# Altium integrated library TI Data Converters Analog to Digital Converter.IntLib: 2198 symbols (part 76 of 164)
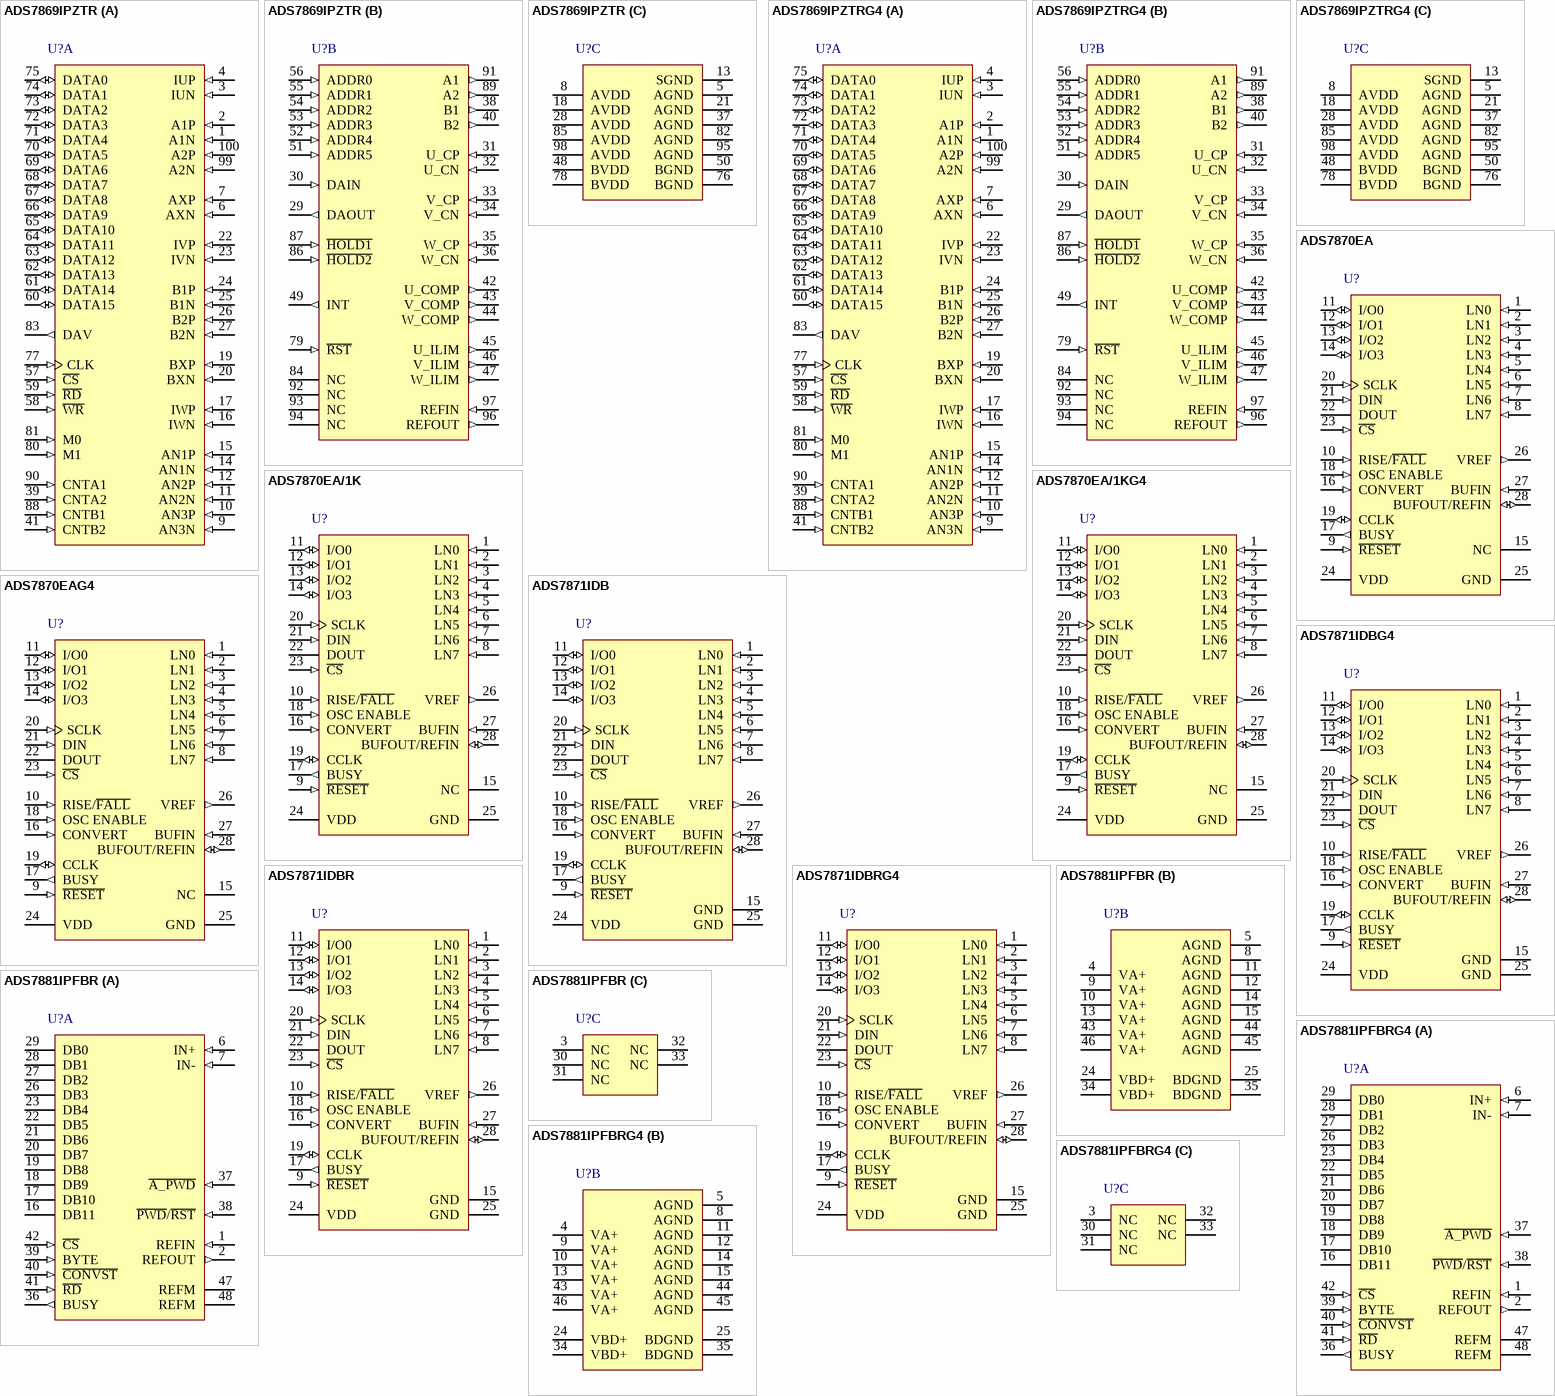
[diagram p201: symbols ADS7869IPZTR to ADS7881IPFBRG4]

## ADS7869IPZTR
designator U?
12-Channel 7 Simultaneous Sampling, Analog Motor Control Front End, 1 MSPS, 12-Bit ADC, -40 to 85 degC, 100-pin QFP (PZT100), Green (RoHS & no Sb/Br); Manufacturer: Texas Instruments; PartNumber: ADS7869IPZTR; # Input Channels: 12; Analog Voltage AV/DD(Max)(V): 5.5; Analog Voltage AV/DD(Min)(V): 4.5; Architecture: SAR; Digital Supply(Min)(V): 2.7; INL(Max)(+/-LSB): 2.5; Interface: Parallel CMOS, Serial SPI; Sample Rate (max)(SPS): 1M; SINAD(dB): 70; SNR(dB): 71; SubFamily: Precision ADC (<=10MSPS); DatasheetVersion: SBAS253E; PackageVersion: 4073179/B, 11/1996; PackageReference: PZT100; PackageDescription: 100-Pin Plastic Quad Flatpack, Body 14 x 14 mm, Pitch 0.5 mm; Supplier 1: Digi-Key; Supplier Part Number 1: ADS7842EB/1KG4-ND; Digital Supply(Max)(V): 5.5; Eco-Plan: Green (RoHS & no Sb/Br); Resolution(Bits): 12; Mounting Technology: Surface Mount; Code_JEDEC: MS-026; ComponentLink1Description: Manufacturer URL; ComponentLink1URL: http://www.ti.com/; ComponentLink2Description: Datasheet; ComponentLink2URL: http://www.ti.com/general/docs/lit/getliterature.tsp?genericPartNumber=ADS7869&fileType=pdf; ComponentLink3Description: Package Specification; ComponentLink3URL: http://www.ti.com/litv/pdf/mtqf012b
footprint TI-PZT100_N (QFP, 100-Leads, Body 14x14mm, Pitch 0.5mm, IPC Medium Density)
footprint TI-PZT100_L (QFP, 100-Leads, Body 14x14mm, Pitch 0.5mm, IPC High Density)
footprint TI-PZT100_M (QFP, 100-Leads, Body 14x14mm, Pitch 0.5mm, IPC Low Density)
part A pins: 1 A1N (in) "Position Sensor 1, Analog Input of SIN, Negative Input", 2 A1P (in) "Position Sensor 1, Analog Input of SIN, Positive Input", 3 IUN (in) "Phase U Current, Negative Input", 4 IUP (in) "Phase U Current, Positive Input", 6 AXN (in) "Position Sensor X, Asynchronous Analog Input of SIN, Negative Input", 7 AXP (in) "Position Sensor X, Asynchronous Analog Input of SIN, Positive Input", 9 AN3N (in) "Auxiliary Analog Input Channel (3), Negative Input", 10 AN3P (in) "Auxiliary Analog Input Channel (3), Positive Input", 11 AN2N (in) "Auxiliary Analog Input Channel (2), Negative Input", 12 AN2P (in) "Auxiliary Analog Input Channel (2), Positive Input", 14 AN1N (in) "Auxiliary Analog Input Channel (1), Negative Input", 15 AN1P (in) "Auxiliary Analog Input Channel (1), Positive Input", 16 IWN (in) "Phase W Current, Negative Input", 17 IWP (in) "Phase W Current, Positive Input", 19 BXP (in) "Position Sensor X, Asynchronous Analog Input of COS, Positive Input", 20 BXN (in) "Position Sensor X, Asynchronous Analog Input of COS, Negative Input", 22 IVP (in) "Phase V Current, Positive Input", 23 IVN (in) "Phase V Current, Negative Input", 24 B1P (in) "Position Sensor 1, Analog Input of COS, Positive Input", 25 B1N (in) "Position Sensor 1, Analog Input of COS, Negative Input", 26 B2P (in) "Position Sensor 2, Analog Input of COS, Positive Input", 27 B2N (in) "Position Sensor 2, Analog Input of COS, Negative Input", 39 CNTA2 (in) "Input Signal SIN to 16-bit Up/Down Counter 2", 41 CNTB2 (in) "Input Signal COS to 16-bit Up/Down Counter 2", 57 ~{CS} (in) "Active Low Chip-Select Signal", 58 ~{WR} (in) "Active Low Write Signal", 59 ~{RD} (in) "Active Low Read Signal", 60 DATA15 (io) "Bidirectional 3-state Data Bus", 61 DATA14 (io) "Bidirectional 3-state Data Bus", 62 DATA13 (io) "Bidirectional 3-state Data Bus", 63 DATA12 (io) "Bidirectional 3-state Data Bus", 64 DATA11 (io) "Bidirectional 3-state Data Bus", 65 DATA10 (io) "Bidirectional 3-state Data Bus", 66 DATA9 (io) "Bidirectional 3-state Data Bus", 67 DATA8 (io) "Bidirectional 3-state Data Bus", 68 DATA7 (io) "Bidirectional 3-state Data Bus", 69 DATA6 (io) "Bidirectional 3-state Data Bus", 70 DATA5 (io) "Bidirectional 3-state Data Bus", 71 DATA4 (io) "Bidirectional 3-state Data Bus", 72 DATA3 (io) "Bidirectional 3-state Data Bus", 73 DATA2 (io) "Bidirectional 3-state Data Bus", 74 DATA1 (io) "Bidirectional 3-state Data Bus", 75 DATA0 (io) "Bidirectional 3-state Data Bus", 77 CLK (in) "System Clock", 80 M1 (in) "Mode Select Pins", 81 M0 (in) "Mode Select Pins", 83 DAV (out) "Data Available Signal", 88 CNTB1 (in) "Input Signal COS to 16-bit Up/Down Counter 1", 90 CNTA1 (in) "Input Signal SIN to 16-bit Up/Down Counter 1", 99 A2N (in) "Position Sensor 2, Analog Input of SIN, Negative Input", 100 A2P (in) "Position Sensor 2, Analog Input of SIN, Positive Input"
part B pins: 29 DAOUT (out) "8-Bit DAC Output for Over-Current Limit Value", 30 DAIN (in) "Over-Current Limit Value as Input for Window Comparators", 31 U_CP (in) "Phase U Current Signal Input for Sign and Window Comparator, Positive Input", 32 U_CN (in) "Phase U Current Signal Input for Sign and Window Comparator, Negative Input", 33 V_CP (in) "Phase V Current Signal Input for Sign and Window Comparator, Positive Input", 34 V_CN (in) "Phase V Current Signal Input for Sign and Window Comparator, Negative Input", 35 W_CP (in) "Phase W Current Signal Input for Sign and Window Comparator, Positive Input", 36 W_CN (in) "Phase W Current Signal Input for Sign and Window Comparator, Negative Input", 38 B1 (out) "Sign of COS Signal, Position Sensor 1", 40 B2 (out) "Sign of COS Signal, Position Sensor 2", 42 U_COMP (out) "Sign of Phase U Current", 43 V_COMP (out) "Sign of Phase V Current", 44 W_COMP (out) "Sign of Phase W Current", 45 U_ILIM (out) "Over-current Output of Phase U, Active Low Output", 46 V_ILIM (out) "Over-current Output of Phase V, Active Low Output", 47 W_ILIM (out) "Over-current Output of Phase W, Active Low Output", 49 INT (out) "Active High Interrupt Output", 51 ADDR5 (in) "Address Decode Input", 52 ADDR4 (in) "Address Decode Input", 53 ADDR3 (in) "Address Decode Input", 54 ADDR2 (in) "Address Decode Input", 55 ADDR1 (in) "Address Decode Input", 56 ADDR0 (in) "Address Decode Input", 79 ~{RST} (in) "Active Low Reset Input", 84 NC "No connection (should be left open)", 86 ~{HOLD2} (in) "Active Low Asynchronous Hold Signal for Sample-and-Hold Amplifiers", 87 ~{HOLD1} (in) "Active Low Convert Start and Synchronous Hold Signal for Sample-and-Hold Amplifiers", 89 A2 (out) "Sign of SIN Signal, Position Sensor 2", 91 A1 (out) "Sign of SIN Signal, Position Sensor 1", 92 NC "No connection (should be left open)", 93 NC "No connection (should be left open)", 94 NC "No connection (should be left open)", 96 REFOUT (out) "Reference Voltage Output Pin", 97 REFIN (in) "Reference Voltage Input Pin"
part C pins: 5 AGND (power) "Analog Ground", 8 AVDD (power) "Analog Power Supply", 13 SGND (power) "Signal Ground", 18 AVDD (power) "Analog Power Supply", 21 AGND (power) "Analog Ground", 28 AVDD (power) "Analog Power Supply", 37 AGND (power) "Analog Ground", 48 BVDD (power) "Interface Power Supply", 50 BGND (power) "Interface Ground", 76 BGND (power) "Interface Ground", 78 BVDD (power) "Interface Power Supply", 82 AGND (power) "Analog Ground", 85 AVDD (power) "Analog Power Supply", 95 AGND (power) "Analog Ground", 98 AVDD (power) "Analog Power Supply"

## ADS7869IPZTRG4
designator U?
12-Channel 7 Simultaneous Sampling, Analog Motor Control Front End, 1 MSPS, 12-Bit ADC, -40 to 85 degC, 100-pin QFP (PZT100), Green (RoHS & no Sb/Br); Manufacturer: Texas Instruments; PartNumber: ADS7869IPZTRG4; # Input Channels: 12; Analog Voltage AV/DD(Max)(V): 5.5; Analog Voltage AV/DD(Min)(V): 4.5; Architecture: SAR; Digital Supply(Min)(V): 2.7; INL(Max)(+/-LSB): 2.5; Interface: Parallel CMOS, Serial SPI; Sample Rate (max)(SPS): 1M; SINAD(dB): 70; SNR(dB): 71; SubFamily: Precision ADC (<=10MSPS); DatasheetVersion: SBAS253E; PackageVersion: 4073179/B, 11/1996; PackageReference: PZT100; PackageDescription: 100-Pin Plastic Quad Flatpack, Body 14 x 14 mm, Pitch 0.5 mm; Supplier 1: Digi-Key; Supplier Part Number 1: ADS7842EBG4-ND; Digital Supply(Max)(V): 5.5; Eco-Plan: Green (RoHS & no Sb/Br); Resolution(Bits): 12; Mounting Technology: Surface Mount; Code_JEDEC: MS-026; ComponentLink1Description: Manufacturer URL; ComponentLink1URL: http://www.ti.com/; ComponentLink2Description: Datasheet; ComponentLink2URL: http://www.ti.com/general/docs/lit/getliterature.tsp?genericPartNumber=ADS7869&fileType=pdf; ComponentLink3Description: Package Specification; ComponentLink3URL: http://www.ti.com/litv/pdf/mtqf012b
footprint TI-PZT100_N (QFP, 100-Leads, Body 14x14mm, Pitch 0.5mm, IPC Medium Density)
footprint TI-PZT100_L (QFP, 100-Leads, Body 14x14mm, Pitch 0.5mm, IPC High Density)
footprint TI-PZT100_M (QFP, 100-Leads, Body 14x14mm, Pitch 0.5mm, IPC Low Density)
part A pins: 1 A1N (in) "Position Sensor 1, Analog Input of SIN, Negative Input", 2 A1P (in) "Position Sensor 1, Analog Input of SIN, Positive Input", 3 IUN (in) "Phase U Current, Negative Input", 4 IUP (in) "Phase U Current, Positive Input", 6 AXN (in) "Position Sensor X, Asynchronous Analog Input of SIN, Negative Input", 7 AXP (in) "Position Sensor X, Asynchronous Analog Input of SIN, Positive Input", 9 AN3N (in) "Auxiliary Analog Input Channel (3), Negative Input", 10 AN3P (in) "Auxiliary Analog Input Channel (3), Positive Input", 11 AN2N (in) "Auxiliary Analog Input Channel (2), Negative Input", 12 AN2P (in) "Auxiliary Analog Input Channel (2), Positive Input", 14 AN1N (in) "Auxiliary Analog Input Channel (1), Negative Input", 15 AN1P (in) "Auxiliary Analog Input Channel (1), Positive Input", 16 IWN (in) "Phase W Current, Negative Input", 17 IWP (in) "Phase W Current, Positive Input", 19 BXP (in) "Position Sensor X, Asynchronous Analog Input of COS, Positive Input", 20 BXN (in) "Position Sensor X, Asynchronous Analog Input of COS, Negative Input", 22 IVP (in) "Phase V Current, Positive Input", 23 IVN (in) "Phase V Current, Negative Input", 24 B1P (in) "Position Sensor 1, Analog Input of COS, Positive Input", 25 B1N (in) "Position Sensor 1, Analog Input of COS, Negative Input", 26 B2P (in) "Position Sensor 2, Analog Input of COS, Positive Input", 27 B2N (in) "Position Sensor 2, Analog Input of COS, Negative Input", 39 CNTA2 (in) "Input Signal SIN to 16-bit Up/Down Counter 2", 41 CNTB2 (in) "Input Signal COS to 16-bit Up/Down Counter 2", 57 ~{CS} (in) "Active Low Chip-Select Signal", 58 ~{WR} (in) "Active Low Write Signal", 59 ~{RD} (in) "Active Low Read Signal", 60 DATA15 (io) "Bidirectional 3-state Data Bus", 61 DATA14 (io) "Bidirectional 3-state Data Bus", 62 DATA13 (io) "Bidirectional 3-state Data Bus", 63 DATA12 (io) "Bidirectional 3-state Data Bus", 64 DATA11 (io) "Bidirectional 3-state Data Bus", 65 DATA10 (io) "Bidirectional 3-state Data Bus", 66 DATA9 (io) "Bidirectional 3-state Data Bus", 67 DATA8 (io) "Bidirectional 3-state Data Bus", 68 DATA7 (io) "Bidirectional 3-state Data Bus", 69 DATA6 (io) "Bidirectional 3-state Data Bus", 70 DATA5 (io) "Bidirectional 3-state Data Bus", 71 DATA4 (io) "Bidirectional 3-state Data Bus", 72 DATA3 (io) "Bidirectional 3-state Data Bus", 73 DATA2 (io) "Bidirectional 3-state Data Bus", 74 DATA1 (io) "Bidirectional 3-state Data Bus", 75 DATA0 (io) "Bidirectional 3-state Data Bus", 77 CLK (in) "System Clock", 80 M1 (in) "Mode Select Pins", 81 M0 (in) "Mode Select Pins", 83 DAV (out) "Data Available Signal", 88 CNTB1 (in) "Input Signal COS to 16-bit Up/Down Counter 1", 90 CNTA1 (in) "Input Signal SIN to 16-bit Up/Down Counter 1", 99 A2N (in) "Position Sensor 2, Analog Input of SIN, Negative Input", 100 A2P (in) "Position Sensor 2, Analog Input of SIN, Positive Input"
part B pins: 29 DAOUT (out) "8-Bit DAC Output for Over-Current Limit Value", 30 DAIN (in) "Over-Current Limit Value as Input for Window Comparators", 31 U_CP (in) "Phase U Current Signal Input for Sign and Window Comparator, Positive Input", 32 U_CN (in) "Phase U Current Signal Input for Sign and Window Comparator, Negative Input", 33 V_CP (in) "Phase V Current Signal Input for Sign and Window Comparator, Positive Input", 34 V_CN (in) "Phase V Current Signal Input for Sign and Window Comparator, Negative Input", 35 W_CP (in) "Phase W Current Signal Input for Sign and Window Comparator, Positive Input", 36 W_CN (in) "Phase W Current Signal Input for Sign and Window Comparator, Negative Input", 38 B1 (out) "Sign of COS Signal, Position Sensor 1", 40 B2 (out) "Sign of COS Signal, Position Sensor 2", 42 U_COMP (out) "Sign of Phase U Current", 43 V_COMP (out) "Sign of Phase V Current", 44 W_COMP (out) "Sign of Phase W Current", 45 U_ILIM (out) "Over-current Output of Phase U, Active Low Output", 46 V_ILIM (out) "Over-current Output of Phase V, Active Low Output", 47 W_ILIM (out) "Over-current Output of Phase W, Active Low Output", 49 INT (out) "Active High Interrupt Output", 51 ADDR5 (in) "Address Decode Input", 52 ADDR4 (in) "Address Decode Input", 53 ADDR3 (in) "Address Decode Input", 54 ADDR2 (in) "Address Decode Input", 55 ADDR1 (in) "Address Decode Input", 56 ADDR0 (in) "Address Decode Input", 79 ~{RST} (in) "Active Low Reset Input", 84 NC "No connection (should be left open)", 86 ~{HOLD2} (in) "Active Low Asynchronous Hold Signal for Sample-and-Hold Amplifiers", 87 ~{HOLD1} (in) "Active Low Convert Start and Synchronous Hold Signal for Sample-and-Hold Amplifiers", 89 A2 (out) "Sign of SIN Signal, Position Sensor 2", 91 A1 (out) "Sign of SIN Signal, Position Sensor 1", 92 NC "No connection (should be left open)", 93 NC "No connection (should be left open)", 94 NC "No connection (should be left open)", 96 REFOUT (out) "Reference Voltage Output Pin", 97 REFIN (in) "Reference Voltage Input Pin"
part C pins: 5 AGND (power) "Analog Ground", 8 AVDD (power) "Analog Power Supply", 13 SGND (power) "Signal Ground", 18 AVDD (power) "Analog Power Supply", 21 AGND (power) "Analog Ground", 28 AVDD (power) "Analog Power Supply", 37 AGND (power) "Analog Ground", 48 BVDD (power) "Interface Power Supply", 50 BGND (power) "Interface Ground", 76 BGND (power) "Interface Ground", 78 BVDD (power) "Interface Power Supply", 82 AGND (power) "Analog Ground", 85 AVDD (power) "Analog Power Supply", 95 AGND (power) "Analog Ground", 98 AVDD (power) "Analog Power Supply"

## ADS7870EA
designator U?
12-Bit ADC, Multiplexer, PGA and Internal Reference Data Acquisition System, -40 to 85 degC, 28-pin SOP (DB28), Green (RoHS & no Sb/Br); Manufacturer: Texas Instruments; PartNumber: ADS7870EA; # Input Channels: 8; Analog Voltage AV/DD(Max)(V): 5.25; Analog Voltage AV/DD(Min)(V): 2.7; Architecture: SAR; INL(Max)(+/-LSB): 2.5; Interface: Serial SPI; Resolution(Bits): 12; Sample Rate (max)(SPS): 52k; SINAD(dB): 72; SubFamily: Precision ADC (<=10MSPS); DatasheetVersion: SBAS124C; PackageVersion: 4040065/E, 12/2001; PackageReference: DB28; PackageDescription: 28-Pin Plastic Small Outline, Body 10.2 X 5.3 mm, Pitch 0.65 mm; Supplier 1: Digi-Key; Supplier Part Number 1: ADS7842EG4-ND; Digital Supply(Max)(V): 5.25; Digital Supply(Min)(V): 2.7; Eco-Plan: Green (RoHS & no Sb/Br); Mounting Technology: Surface Mount; Code_JEDEC: MO-150; ComponentLink1Description: Manufacturer URL; ComponentLink1URL: http://www.ti.com/; ComponentLink2Description: Datasheet; ComponentLink2URL: http://www.ti.com/general/docs/lit/getliterature.tsp?genericPartNumber=ADS7870&fileType=pdf; ComponentLink3Description: Package Specification; ComponentLink3URL: http://www.ti.com/lit/ml/msso002e/msso002e.pdf
footprint TI-DB28_N (SOP, 28-Leads, Body 10.2x5.3mm, Pitch 0.65mm, IPC Medium Density)
footprint TI-DB28_L (SOP, 28-Leads, Body 10.2x5.3mm, Pitch 0.65mm, IPC High Density)
footprint TI-DB28_M (SOP, 28-Leads, Body 10.2x5.3mm, Pitch 0.65mm, IPC Low Density)
pins: 1 LN0 (in) "MUX input lines 0", 2 LN1 (in) "MUX input lines 1", 3 LN2 (in) "MUX input lines 2", 4 LN3 (in) "MUX input lines 3", 5 LN4 (in) "MUX input lines 4", 6 LN5 (in) "MUX input lines 5", 7 LN6 (in) "MUX input lines 6", 8 LN7 (in) "MUX input lines 7", 9 ~{RESET} (in) "Master reset, zeros all registers", 10 RISE/~{FALL} (in) "Sets the active edge for SCLK. 0 sets SCLK active on falling edge. 1 sets SCLK active on rising edge.", 11 I/O0 (io) "Digital input or output signal", 12 I/O1 (io) "Digital input or output signal", 13 I/O2 (io) "Digital input or output signal", 14 I/O3 (io) "Digital input or output signal", 15 NC "No connection or internal function. It is recommended that this pin be tied to ground.", 16 CONVERT (in) "0 to 1 transition starts a conversion cycle.", 17 BUSY (out) "1 indicates converter is busy", 18 OSC ENABLE (in) "0 sets CCLK as an input, 1 sets CCLK as an output and turns the oscillator on.", 19 CCLK (io) "If OSC ENABLE = 1, then the internal oscillator is output to this pin. If OSC ENABLE = 0, then this is the input pin for an external conversion clock.", 20 SCLK (in) "Serial data input/output transfer clock. Active edge set by the RISE/F\A\L\L\ pin. If RISE/F\A\L\L\ is low, SCLK is active on the falling edge.", 21 DIN (in) "Serial data input. In the 3-wire mode, this pin is used for serial data input. In the 2-wire mode, serial data output appears on this pin as well as the DOUT pin.", 22 DOUT (hiz) "Serial data output. This pin is driven when C\S\ is low and is high impedance when C\S\ is high. This pin behaves the same in both 3-wire and 2-wire modes.", 23 ~{CS} (in) "Chip select. When C\S\ is low, the serial interface is enabled. When C\S\ is high, the serial interface is disabled, the DOUT pin is high impedance, and the DIN pin is an input. The C\S\ pin only affects the operation of the (See Datasheet)", 24 VDD (power) "Power supply voltage, 2.7 V to 5.5 V", 25 GND (power) "Power supply ground", 26 VREF (out) "2.048-/2.5-V on-chip voltage reference", 27 BUFIN (in) "Input to reference buffer amplifier", 28 BUFOUT/REFIN (io) "Output from reference buffer amplifier and reference input to ADC"

## ADS7870EA/1K
designator U?
12-Bit ADC, Multiplexer, PGA and Internal Reference Data Acquisition System, -40 to 85 degC, 28-pin SOP (DB28), Green (RoHS & no Sb/Br); Manufacturer: Texas Instruments; PartNumber: ADS7870EA/1K; # Input Channels: 8; Analog Voltage AV/DD(Max)(V): 5.25; Analog Voltage AV/DD(Min)(V): 2.7; Architecture: SAR; INL(Max)(+/-LSB): 2.5; Interface: Serial SPI; Resolution(Bits): 12; Sample Rate (max)(SPS): 52k; SINAD(dB): 72; SubFamily: Precision ADC (<=10MSPS); DatasheetVersion: SBAS124C; PackageVersion: 4040065/E, 12/2001; PackageReference: DB28; PackageDescription: 28-Pin Plastic Small Outline, Body 10.2 X 5.3 mm, Pitch 0.65 mm; Supplier 1: Digi-Key; Supplier Part Number 1: ADS8320ETR-ND; Digital Supply(Max)(V): 5.25; Digital Supply(Min)(V): 2.7; Eco-Plan: Green (RoHS & no Sb/Br); Mounting Technology: Surface Mount; Code_JEDEC: MO-150; ComponentLink1Description: Manufacturer URL; ComponentLink1URL: http://www.ti.com/; ComponentLink2Description: Datasheet; ComponentLink2URL: http://www.ti.com/general/docs/lit/getliterature.tsp?genericPartNumber=ADS7870&fileType=pdf; ComponentLink3Description: Package Specification; ComponentLink3URL: http://www.ti.com/lit/ml/msso002e/msso002e.pdf
footprint TI-DB28_N (SOP, 28-Leads, Body 10.2x5.3mm, Pitch 0.65mm, IPC Medium Density)
footprint TI-DB28_L (SOP, 28-Leads, Body 10.2x5.3mm, Pitch 0.65mm, IPC High Density)
footprint TI-DB28_M (SOP, 28-Leads, Body 10.2x5.3mm, Pitch 0.65mm, IPC Low Density)
pins: 1 LN0 (in) "MUX input lines 0", 2 LN1 (in) "MUX input lines 1", 3 LN2 (in) "MUX input lines 2", 4 LN3 (in) "MUX input lines 3", 5 LN4 (in) "MUX input lines 4", 6 LN5 (in) "MUX input lines 5", 7 LN6 (in) "MUX input lines 6", 8 LN7 (in) "MUX input lines 7", 9 ~{RESET} (in) "Master reset, zeros all registers", 10 RISE/~{FALL} (in) "Sets the active edge for SCLK. 0 sets SCLK active on falling edge. 1 sets SCLK active on rising edge.", 11 I/O0 (io) "Digital input or output signal", 12 I/O1 (io) "Digital input or output signal", 13 I/O2 (io) "Digital input or output signal", 14 I/O3 (io) "Digital input or output signal", 15 NC "No connection or internal function. It is recommended that this pin be tied to ground.", 16 CONVERT (in) "0 to 1 transition starts a conversion cycle.", 17 BUSY (out) "1 indicates converter is busy", 18 OSC ENABLE (in) "0 sets CCLK as an input, 1 sets CCLK as an output and turns the oscillator on.", 19 CCLK (io) "If OSC ENABLE = 1, then the internal oscillator is output to this pin. If OSC ENABLE = 0, then this is the input pin for an external conversion clock.", 20 SCLK (in) "Serial data input/output transfer clock. Active edge set by the RISE/F\A\L\L\ pin. If RISE/F\A\L\L\ is low, SCLK is active on the falling edge.", 21 DIN (in) "Serial data input. In the 3-wire mode, this pin is used for serial data input. In the 2-wire mode, serial data output appears on this pin as well as the DOUT pin.", 22 DOUT (hiz) "Serial data output. This pin is driven when C\S\ is low and is high impedance when C\S\ is high. This pin behaves the same in both 3-wire and 2-wire modes.", 23 ~{CS} (in) "Chip select. When C\S\ is low, the serial interface is enabled. When C\S\ is high, the serial interface is disabled, the DOUT pin is high impedance, and the DIN pin is an input. The C\S\ pin only affects the operation of the (See Datasheet)", 24 VDD (power) "Power supply voltage, 2.7 V to 5.5 V", 25 GND (power) "Power supply ground", 26 VREF (out) "2.048-/2.5-V on-chip voltage reference", 27 BUFIN (in) "Input to reference buffer amplifier", 28 BUFOUT/REFIN (io) "Output from reference buffer amplifier and reference input to ADC"

## ADS7870EA/1KG4
designator U?
12-Bit ADC, Multiplexer, PGA and Internal Reference Data Acquisition System, -40 to 85 degC, 28-pin SOP (DB28), Green (RoHS & no Sb/Br); Manufacturer: Texas Instruments; PartNumber: ADS7870EA/1KG4; # Input Channels: 8; Analog Voltage AV/DD(Max)(V): 5.25; Analog Voltage AV/DD(Min)(V): 2.7; Architecture: SAR; INL(Max)(+/-LSB): 2.5; Interface: Serial SPI; Resolution(Bits): 12; Sample Rate (max)(SPS): 52k; SINAD(dB): 72; SubFamily: Precision ADC (<=10MSPS); DatasheetVersion: SBAS124C; PackageVersion: 4040065/E, 12/2001; PackageReference: DB28; PackageDescription: 28-Pin Plastic Small Outline, Body 10.2 X 5.3 mm, Pitch 0.65 mm; Supplier 1: Digi-Key; Supplier Part Number 1: ADS8320E/250G4-ND; Digital Supply(Max)(V): 5.25; Digital Supply(Min)(V): 2.7; Eco-Plan: Green (RoHS & no Sb/Br); Mounting Technology: Surface Mount; Code_JEDEC: MO-150; ComponentLink1Description: Manufacturer URL; ComponentLink1URL: http://www.ti.com/; ComponentLink2Description: Datasheet; ComponentLink2URL: http://www.ti.com/general/docs/lit/getliterature.tsp?genericPartNumber=ADS7870&fileType=pdf; ComponentLink3Description: Package Specification; ComponentLink3URL: http://www.ti.com/lit/ml/msso002e/msso002e.pdf
footprint TI-DB28_N (SOP, 28-Leads, Body 10.2x5.3mm, Pitch 0.65mm, IPC Medium Density)
footprint TI-DB28_L (SOP, 28-Leads, Body 10.2x5.3mm, Pitch 0.65mm, IPC High Density)
footprint TI-DB28_M (SOP, 28-Leads, Body 10.2x5.3mm, Pitch 0.65mm, IPC Low Density)
pins: 1 LN0 (in) "MUX input lines 0", 2 LN1 (in) "MUX input lines 1", 3 LN2 (in) "MUX input lines 2", 4 LN3 (in) "MUX input lines 3", 5 LN4 (in) "MUX input lines 4", 6 LN5 (in) "MUX input lines 5", 7 LN6 (in) "MUX input lines 6", 8 LN7 (in) "MUX input lines 7", 9 ~{RESET} (in) "Master reset, zeros all registers", 10 RISE/~{FALL} (in) "Sets the active edge for SCLK. 0 sets SCLK active on falling edge. 1 sets SCLK active on rising edge.", 11 I/O0 (io) "Digital input or output signal", 12 I/O1 (io) "Digital input or output signal", 13 I/O2 (io) "Digital input or output signal", 14 I/O3 (io) "Digital input or output signal", 15 NC "No connection or internal function. It is recommended that this pin be tied to ground.", 16 CONVERT (in) "0 to 1 transition starts a conversion cycle.", 17 BUSY (out) "1 indicates converter is busy", 18 OSC ENABLE (in) "0 sets CCLK as an input, 1 sets CCLK as an output and turns the oscillator on.", 19 CCLK (io) "If OSC ENABLE = 1, then the internal oscillator is output to this pin. If OSC ENABLE = 0, then this is the input pin for an external conversion clock.", 20 SCLK (in) "Serial data input/output transfer clock. Active edge set by the RISE/F\A\L\L\ pin. If RISE/F\A\L\L\ is low, SCLK is active on the falling edge.", 21 DIN (in) "Serial data input. In the 3-wire mode, this pin is used for serial data input. In the 2-wire mode, serial data output appears on this pin as well as the DOUT pin.", 22 DOUT (hiz) "Serial data output. This pin is driven when C\S\ is low and is high impedance when C\S\ is high. This pin behaves the same in both 3-wire and 2-wire modes.", 23 ~{CS} (in) "Chip select. When C\S\ is low, the serial interface is enabled. When C\S\ is high, the serial interface is disabled, the DOUT pin is high impedance, and the DIN pin is an input. The C\S\ pin only affects the operation of the (See Datasheet)", 24 VDD (power) "Power supply voltage, 2.7 V to 5.5 V", 25 GND (power) "Power supply ground", 26 VREF (out) "2.048-/2.5-V on-chip voltage reference", 27 BUFIN (in) "Input to reference buffer amplifier", 28 BUFOUT/REFIN (io) "Output from reference buffer amplifier and reference input to ADC"

## ADS7870EAG4
designator U?
12-Bit ADC, Multiplexer, PGA and Internal Reference Data Acquisition System, -40 to 85 degC, 28-pin SOP (DB28), Green (RoHS & no Sb/Br); Manufacturer: Texas Instruments; PartNumber: ADS7870EAG4; # Input Channels: 8; Analog Voltage AV/DD(Max)(V): 5.25; Analog Voltage AV/DD(Min)(V): 2.7; Architecture: SAR; INL(Max)(+/-LSB): 2.5; Interface: Serial SPI; Resolution(Bits): 12; Sample Rate (max)(SPS): 52k; SINAD(dB): 72; SubFamily: Precision ADC (<=10MSPS); DatasheetVersion: SBAS124C; PackageVersion: 4040065/E, 12/2001; PackageReference: DB28; PackageDescription: 28-Pin Plastic Small Outline, Body 10.2 X 5.3 mm, Pitch 0.65 mm; Supplier 1: Digi-Key; Supplier Part Number 1: 296-23650-2-ND; Digital Supply(Max)(V): 5.25; Digital Supply(Min)(V): 2.7; Eco-Plan: Green (RoHS & no Sb/Br); Mounting Technology: Surface Mount; Code_JEDEC: MO-150; ComponentLink1Description: Manufacturer URL; ComponentLink1URL: http://www.ti.com/; ComponentLink2Description: Datasheet; ComponentLink2URL: http://www.ti.com/general/docs/lit/getliterature.tsp?genericPartNumber=ADS7870&fileType=pdf; ComponentLink3Description: Package Specification; ComponentLink3URL: http://www.ti.com/lit/ml/msso002e/msso002e.pdf
footprint TI-DB28_N (SOP, 28-Leads, Body 10.2x5.3mm, Pitch 0.65mm, IPC Medium Density)
footprint TI-DB28_L (SOP, 28-Leads, Body 10.2x5.3mm, Pitch 0.65mm, IPC High Density)
footprint TI-DB28_M (SOP, 28-Leads, Body 10.2x5.3mm, Pitch 0.65mm, IPC Low Density)
pins: 1 LN0 (in) "MUX input lines 0", 2 LN1 (in) "MUX input lines 1", 3 LN2 (in) "MUX input lines 2", 4 LN3 (in) "MUX input lines 3", 5 LN4 (in) "MUX input lines 4", 6 LN5 (in) "MUX input lines 5", 7 LN6 (in) "MUX input lines 6", 8 LN7 (in) "MUX input lines 7", 9 ~{RESET} (in) "Master reset, zeros all registers", 10 RISE/~{FALL} (in) "Sets the active edge for SCLK. 0 sets SCLK active on falling edge. 1 sets SCLK active on rising edge.", 11 I/O0 (io) "Digital input or output signal", 12 I/O1 (io) "Digital input or output signal", 13 I/O2 (io) "Digital input or output signal", 14 I/O3 (io) "Digital input or output signal", 15 NC "No connection or internal function. It is recommended that this pin be tied to ground.", 16 CONVERT (in) "0 to 1 transition starts a conversion cycle.", 17 BUSY (out) "1 indicates converter is busy", 18 OSC ENABLE (in) "0 sets CCLK as an input, 1 sets CCLK as an output and turns the oscillator on.", 19 CCLK (io) "If OSC ENABLE = 1, then the internal oscillator is output to this pin. If OSC ENABLE = 0, then this is the input pin for an external conversion clock.", 20 SCLK (in) "Serial data input/output transfer clock. Active edge set by the RISE/F\A\L\L\ pin. If RISE/F\A\L\L\ is low, SCLK is active on the falling edge.", 21 DIN (in) "Serial data input. In the 3-wire mode, this pin is used for serial data input. In the 2-wire mode, serial data output appears on this pin as well as the DOUT pin.", 22 DOUT (hiz) "Serial data output. This pin is driven when C\S\ is low and is high impedance when C\S\ is high. This pin behaves the same in both 3-wire and 2-wire modes.", 23 ~{CS} (in) "Chip select. When C\S\ is low, the serial interface is enabled. When C\S\ is high, the serial interface is disabled, the DOUT pin is high impedance, and the DIN pin is an input. The C\S\ pin only affects the operation of the (See Datasheet)", 24 VDD (power) "Power supply voltage, 2.7 V to 5.5 V", 25 GND (power) "Power supply ground", 26 VREF (out) "2.048-/2.5-V on-chip voltage reference", 27 BUFIN (in) "Input to reference buffer amplifier", 28 BUFOUT/REFIN (io) "Output from reference buffer amplifier and reference input to ADC"

## ADS7871IDB
designator U?
14-Bit 48 kSPS DAS with ADC, MUX, PGA and Internal Reference, -40 to 85 degC, 28-pin SOP (DB28), Green (RoHS & no Sb/Br); Manufacturer: Texas Instruments; PartNumber: ADS7871IDB; # Input Channels: 8; Analog Voltage AV/DD(Max)(V): 5.25; Analog Voltage AV/DD(Min)(V): 2.7; Architecture: SAR; INL(Max)(+/-LSB): 2; Interface: Serial SPI; Resolution(Bits): 14; Sample Rate (max)(SPS): 48k; SubFamily: Precision ADC (<=10MSPS); DatasheetVersion: SLAS370C; PackageVersion: 4040065/E, 12/2001; PackageReference: DB28; PackageDescription: 28-Pin Plastic Small Outline, Body 10.2 X 5.3 mm, Pitch 0.65 mm; Supplier 1: Digi-Key; Supplier Part Number 1: ADS8320E/2K5G4-ND; Digital Supply(Max)(V): 5.25; Digital Supply(Min)(V): 2.7; Eco-Plan: Green (RoHS & no Sb/Br); Mounting Technology: Surface Mount; Code_JEDEC: MO-150; ComponentLink1Description: Manufacturer URL; ComponentLink1URL: http://www.ti.com/; ComponentLink2Description: Datasheet; ComponentLink2URL: http://www.ti.com/general/docs/lit/getliterature.tsp?genericPartNumber=ADS7871&fileType=pdf; ComponentLink3Description: Package Specification; ComponentLink3URL: http://www.ti.com/lit/ml/msso002e/msso002e.pdf
footprint TI-DB28_N (SOP, 28-Leads, Body 10.2x5.3mm, Pitch 0.65mm, IPC Medium Density)
footprint TI-DB28_L (SOP, 28-Leads, Body 10.2x5.3mm, Pitch 0.65mm, IPC High Density)
footprint TI-DB28_M (SOP, 28-Leads, Body 10.2x5.3mm, Pitch 0.65mm, IPC Low Density)
pins: 1 LN0 (in) "MUX input lines 0", 2 LN1 (in) "MUX input lines 1", 3 LN2 (in) "MUX input lines 2", 4 LN3 (in) "MUX input lines 3", 5 LN4 (in) "MUX input lines 4", 6 LN5 (in) "MUX input lines 5", 7 LN6 (in) "MUX input lines 6", 8 LN7 (in) "MUX input lines 7", 9 ~{RESET} (in) "Master reset, zeros all registers", 10 RISE/~{FALL} (in) "Sets the active edge for SCLK. 0 sets SCLK active on falling edge. 1 sets SCLK active on rising edge.", 11 I/O0 (io) "Digital input or output signal", 12 I/O1 (io) "Digital input or output signal", 13 I/O2 (io) "Digital input or output signal", 14 I/O3 (io) "Digital input or output signal", 15 GND (power) "Connect to ground. (This pin is grounded internally on the ADS7871. It has a weak pulldown on the ADS7870).", 16 CONVERT (in) "0 to 1 transition starts a conversion cycle.", 17 BUSY (out) "1 indicates converter is busy", 18 OSC ENABLE (in) "0 sets CCLK as an input, 1 sets CCLK as an output and turns the oscillator on.", 19 CCLK (io) "If OSC ENABLE = 1, then the internal oscillator is output to this pin. If OSC ENABLE = 0, then this is the input pin for an external conversion clock.", 20 SCLK (in) "Serial data input/output transfer clock. Active edge set by the RISE/F\A\L\L\ pin. If RISE/F\A\L\L\ is low, SCLK is active on the falling edge.", 21 DIN (in) "Serial data input. In the 3-wire mode, this pin is used for serial data input. In the 2-wire mode, serial data output appears on this pin as well as the DOUT pin.", 22 DOUT (hiz) "Serial data output. This pin is driven when C\S\ is low and is high impedance when C\S\ is high. This pin behaves the same in both 3-wire and 2-wire modes.", 23 ~{CS} (in) "Chip select. When C\S\ is low, the serial interface is enabled. When C\S\ is high, the serial interface is disabled, the DOUT pin is high impedance, and the DIN pin is an input. The C\S\ pin only affects the operation of the (See Datasheet)", 24 VDD (power) "Power supply voltage, 2.7 V to 5.5 V", 25 GND (power) "Power supply ground", 26 VREF (out) "2.048-/2.5-V on-chip voltage reference", 27 BUFIN (in) "Input to reference buffer amplifier", 28 BUFOUT/REFIN (io) "Output from reference buffer amplifier and reference input to ADC"

## ADS7871IDBG4
designator U?
14-Bit 48 kSPS DAS with ADC, MUX, PGA and Internal Reference, -40 to 85 degC, 28-pin SOP (DB28), Green (RoHS & no Sb/Br); Manufacturer: Texas Instruments; PartNumber: ADS7871IDBG4; # Input Channels: 8; Analog Voltage AV/DD(Max)(V): 5.25; Analog Voltage AV/DD(Min)(V): 2.7; Architecture: SAR; INL(Max)(+/-LSB): 2; Interface: Serial SPI; Resolution(Bits): 14; Sample Rate (max)(SPS): 48k; SubFamily: Precision ADC (<=10MSPS); DatasheetVersion: SLAS370C; PackageVersion: 4040065/E, 12/2001; PackageReference: DB28; PackageDescription: 28-Pin Plastic Small Outline, Body 10.2 X 5.3 mm, Pitch 0.65 mm; Supplier 1: Digi-Key; Supplier Part Number 1: ADS8320EBTR-ND; Digital Supply(Max)(V): 5.25; Digital Supply(Min)(V): 2.7; Eco-Plan: Green (RoHS & no Sb/Br); Mounting Technology: Surface Mount; Code_JEDEC: MO-150; ComponentLink1Description: Manufacturer URL; ComponentLink1URL: http://www.ti.com/; ComponentLink2Description: Datasheet; ComponentLink2URL: http://www.ti.com/general/docs/lit/getliterature.tsp?genericPartNumber=ADS7871&fileType=pdf; ComponentLink3Description: Package Specification; ComponentLink3URL: http://www.ti.com/lit/ml/msso002e/msso002e.pdf
footprint TI-DB28_N (SOP, 28-Leads, Body 10.2x5.3mm, Pitch 0.65mm, IPC Medium Density)
footprint TI-DB28_L (SOP, 28-Leads, Body 10.2x5.3mm, Pitch 0.65mm, IPC High Density)
footprint TI-DB28_M (SOP, 28-Leads, Body 10.2x5.3mm, Pitch 0.65mm, IPC Low Density)
pins: 1 LN0 (in) "MUX input lines 0", 2 LN1 (in) "MUX input lines 1", 3 LN2 (in) "MUX input lines 2", 4 LN3 (in) "MUX input lines 3", 5 LN4 (in) "MUX input lines 4", 6 LN5 (in) "MUX input lines 5", 7 LN6 (in) "MUX input lines 6", 8 LN7 (in) "MUX input lines 7", 9 ~{RESET} (in) "Master reset, zeros all registers", 10 RISE/~{FALL} (in) "Sets the active edge for SCLK. 0 sets SCLK active on falling edge. 1 sets SCLK active on rising edge.", 11 I/O0 (io) "Digital input or output signal", 12 I/O1 (io) "Digital input or output signal", 13 I/O2 (io) "Digital input or output signal", 14 I/O3 (io) "Digital input or output signal", 15 GND (power) "Connect to ground. (This pin is grounded internally on the ADS7871. It has a weak pulldown on the ADS7870).", 16 CONVERT (in) "0 to 1 transition starts a conversion cycle.", 17 BUSY (out) "1 indicates converter is busy", 18 OSC ENABLE (in) "0 sets CCLK as an input, 1 sets CCLK as an output and turns the oscillator on.", 19 CCLK (io) "If OSC ENABLE = 1, then the internal oscillator is output to this pin. If OSC ENABLE = 0, then this is the input pin for an external conversion clock.", 20 SCLK (in) "Serial data input/output transfer clock. Active edge set by the RISE/F\A\L\L\ pin. If RISE/F\A\L\L\ is low, SCLK is active on the falling edge.", 21 DIN (in) "Serial data input. In the 3-wire mode, this pin is used for serial data input. In the 2-wire mode, serial data output appears on this pin as well as the DOUT pin.", 22 DOUT (hiz) "Serial data output. This pin is driven when C\S\ is low and is high impedance when C\S\ is high. This pin behaves the same in both 3-wire and 2-wire modes.", 23 ~{CS} (in) "Chip select. When C\S\ is low, the serial interface is enabled. When C\S\ is high, the serial interface is disabled, the DOUT pin is high impedance, and the DIN pin is an input. The C\S\ pin only affects the operation of the (See Datasheet)", 24 VDD (power) "Power supply voltage, 2.7 V to 5.5 V", 25 GND (power) "Power supply ground", 26 VREF (out) "2.048-/2.5-V on-chip voltage reference", 27 BUFIN (in) "Input to reference buffer amplifier", 28 BUFOUT/REFIN (io) "Output from reference buffer amplifier and reference input to ADC"

## ADS7871IDBR
designator U?
14-Bit 48 kSPS DAS with ADC, MUX, PGA and Internal Reference, -40 to 85 degC, 28-pin SOP (DB28), Green (RoHS & no Sb/Br); Manufacturer: Texas Instruments; PartNumber: ADS7871IDBR; # Input Channels: 8; Analog Voltage AV/DD(Max)(V): 5.25; Analog Voltage AV/DD(Min)(V): 2.7; Architecture: SAR; INL(Max)(+/-LSB): 2; Interface: Serial SPI; Resolution(Bits): 14; Sample Rate (max)(SPS): 48k; SubFamily: Precision ADC (<=10MSPS); DatasheetVersion: SLAS370C; PackageVersion: 4040065/E, 12/2001; PackageReference: DB28; PackageDescription: 28-Pin Plastic Small Outline, Body 10.2 X 5.3 mm, Pitch 0.65 mm; Supplier 1: Digi-Key; Supplier Part Number 1: ADS8320EB/250G4-ND; Digital Supply(Max)(V): 5.25; Digital Supply(Min)(V): 2.7; Eco-Plan: Green (RoHS & no Sb/Br); Mounting Technology: Surface Mount; Code_JEDEC: MO-150; ComponentLink1Description: Manufacturer URL; ComponentLink1URL: http://www.ti.com/; ComponentLink2Description: Datasheet; ComponentLink2URL: http://www.ti.com/general/docs/lit/getliterature.tsp?genericPartNumber=ADS7871&fileType=pdf; ComponentLink3Description: Package Specification; ComponentLink3URL: http://www.ti.com/lit/ml/msso002e/msso002e.pdf
footprint TI-DB28_N (SOP, 28-Leads, Body 10.2x5.3mm, Pitch 0.65mm, IPC Medium Density)
footprint TI-DB28_L (SOP, 28-Leads, Body 10.2x5.3mm, Pitch 0.65mm, IPC High Density)
footprint TI-DB28_M (SOP, 28-Leads, Body 10.2x5.3mm, Pitch 0.65mm, IPC Low Density)
pins: 1 LN0 (in) "MUX input lines 0", 2 LN1 (in) "MUX input lines 1", 3 LN2 (in) "MUX input lines 2", 4 LN3 (in) "MUX input lines 3", 5 LN4 (in) "MUX input lines 4", 6 LN5 (in) "MUX input lines 5", 7 LN6 (in) "MUX input lines 6", 8 LN7 (in) "MUX input lines 7", 9 ~{RESET} (in) "Master reset, zeros all registers", 10 RISE/~{FALL} (in) "Sets the active edge for SCLK. 0 sets SCLK active on falling edge. 1 sets SCLK active on rising edge.", 11 I/O0 (io) "Digital input or output signal", 12 I/O1 (io) "Digital input or output signal", 13 I/O2 (io) "Digital input or output signal", 14 I/O3 (io) "Digital input or output signal", 15 GND (power) "Connect to ground. (This pin is grounded internally on the ADS7871. It has a weak pulldown on the ADS7870).", 16 CONVERT (in) "0 to 1 transition starts a conversion cycle.", 17 BUSY (out) "1 indicates converter is busy", 18 OSC ENABLE (in) "0 sets CCLK as an input, 1 sets CCLK as an output and turns the oscillator on.", 19 CCLK (io) "If OSC ENABLE = 1, then the internal oscillator is output to this pin. If OSC ENABLE = 0, then this is the input pin for an external conversion clock.", 20 SCLK (in) "Serial data input/output transfer clock. Active edge set by the RISE/F\A\L\L\ pin. If RISE/F\A\L\L\ is low, SCLK is active on the falling edge.", 21 DIN (in) "Serial data input. In the 3-wire mode, this pin is used for serial data input. In the 2-wire mode, serial data output appears on this pin as well as the DOUT pin.", 22 DOUT (hiz) "Serial data output. This pin is driven when C\S\ is low and is high impedance when C\S\ is high. This pin behaves the same in both 3-wire and 2-wire modes.", 23 ~{CS} (in) "Chip select. When C\S\ is low, the serial interface is enabled. When C\S\ is high, the serial interface is disabled, the DOUT pin is high impedance, and the DIN pin is an input. The C\S\ pin only affects the operation of the (See Datasheet)", 24 VDD (power) "Power supply voltage, 2.7 V to 5.5 V", 25 GND (power) "Power supply ground", 26 VREF (out) "2.048-/2.5-V on-chip voltage reference", 27 BUFIN (in) "Input to reference buffer amplifier", 28 BUFOUT/REFIN (io) "Output from reference buffer amplifier and reference input to ADC"

## ADS7871IDBRG4
designator U?
14-Bit 48 kSPS DAS with ADC, MUX, PGA and Internal Reference, -40 to 85 degC, 28-pin SOP (DB28), Green (RoHS & no Sb/Br); Manufacturer: Texas Instruments; PartNumber: ADS7871IDBRG4; # Input Channels: 8; Analog Voltage AV/DD(Max)(V): 5.25; Analog Voltage AV/DD(Min)(V): 2.7; Architecture: SAR; INL(Max)(+/-LSB): 2; Interface: Serial SPI; Resolution(Bits): 14; Sample Rate (max)(SPS): 48k; SubFamily: Precision ADC (<=10MSPS); DatasheetVersion: SLAS370C; PackageVersion: 4040065/E, 12/2001; PackageReference: DB28; PackageDescription: 28-Pin Plastic Small Outline, Body 10.2 X 5.3 mm, Pitch 0.65 mm; Supplier 1: Digi-Key; Supplier Part Number 1: ADS8320EB/2K5-ND; Digital Supply(Max)(V): 5.25; Digital Supply(Min)(V): 2.7; Eco-Plan: Green (RoHS & no Sb/Br); Mounting Technology: Surface Mount; Code_JEDEC: MO-150; ComponentLink1Description: Manufacturer URL; ComponentLink1URL: http://www.ti.com/; ComponentLink2Description: Datasheet; ComponentLink2URL: http://www.ti.com/general/docs/lit/getliterature.tsp?genericPartNumber=ADS7871&fileType=pdf; ComponentLink3Description: Package Specification; ComponentLink3URL: http://www.ti.com/lit/ml/msso002e/msso002e.pdf
footprint TI-DB28_N (SOP, 28-Leads, Body 10.2x5.3mm, Pitch 0.65mm, IPC Medium Density)
footprint TI-DB28_L (SOP, 28-Leads, Body 10.2x5.3mm, Pitch 0.65mm, IPC High Density)
footprint TI-DB28_M (SOP, 28-Leads, Body 10.2x5.3mm, Pitch 0.65mm, IPC Low Density)
pins: 1 LN0 (in) "MUX input lines 0", 2 LN1 (in) "MUX input lines 1", 3 LN2 (in) "MUX input lines 2", 4 LN3 (in) "MUX input lines 3", 5 LN4 (in) "MUX input lines 4", 6 LN5 (in) "MUX input lines 5", 7 LN6 (in) "MUX input lines 6", 8 LN7 (in) "MUX input lines 7", 9 ~{RESET} (in) "Master reset, zeros all registers", 10 RISE/~{FALL} (in) "Sets the active edge for SCLK. 0 sets SCLK active on falling edge. 1 sets SCLK active on rising edge.", 11 I/O0 (io) "Digital input or output signal", 12 I/O1 (io) "Digital input or output signal", 13 I/O2 (io) "Digital input or output signal", 14 I/O3 (io) "Digital input or output signal", 15 GND (power) "Connect to ground. (This pin is grounded internally on the ADS7871. It has a weak pulldown on the ADS7870).", 16 CONVERT (in) "0 to 1 transition starts a conversion cycle.", 17 BUSY (out) "1 indicates converter is busy", 18 OSC ENABLE (in) "0 sets CCLK as an input, 1 sets CCLK as an output and turns the oscillator on.", 19 CCLK (io) "If OSC ENABLE = 1, then the internal oscillator is output to this pin. If OSC ENABLE = 0, then this is the input pin for an external conversion clock.", 20 SCLK (in) "Serial data input/output transfer clock. Active edge set by the RISE/F\A\L\L\ pin. If RISE/F\A\L\L\ is low, SCLK is active on the falling edge.", 21 DIN (in) "Serial data input. In the 3-wire mode, this pin is used for serial data input. In the 2-wire mode, serial data output appears on this pin as well as the DOUT pin.", 22 DOUT (hiz) "Serial data output. This pin is driven when C\S\ is low and is high impedance when C\S\ is high. This pin behaves the same in both 3-wire and 2-wire modes.", 23 ~{CS} (in) "Chip select. When C\S\ is low, the serial interface is enabled. When C\S\ is high, the serial interface is disabled, the DOUT pin is high impedance, and the DIN pin is an input. The C\S\ pin only affects the operation of the (See Datasheet)", 24 VDD (power) "Power supply voltage, 2.7 V to 5.5 V", 25 GND (power) "Power supply ground", 26 VREF (out) "2.048-/2.5-V on-chip voltage reference", 27 BUFIN (in) "Input to reference buffer amplifier", 28 BUFOUT/REFIN (io) "Output from reference buffer amplifier and reference input to ADC"

## ADS7881IPFBR
designator U?
2.7 to 5.25 V Digital, 5 V Analog, 12-Bit, 4 MSPS, Parallel ADC with Reference, -40 to 85 degC, 48-pin QFP (PFB48), Green (RoHS & no Sb/Br); Manufacturer: Texas Instruments; PartNumber: ADS7881IPFBR; # Input Channels: 1; Analog Voltage AV/DD(Max)(V): 5.25; Analog Voltage AV/DD(Min)(V): 4.75; Architecture: SAR; Digital Supply(Min)(V): 2.7; Interface: Parallel CMOS; Resolution(Bits): 12; Sample Rate (max)(SPS): 4M; SFDR(dB): 90; SINAD(dB): 71.5; SubFamily: Precision ADC (<=10MSPS); DatasheetVersion: SLAS400B; PackageVersion: 4073176/B, 10/1996; PackageReference: PFB48; PackageDescription: 48-Pin Plastic Flat Pack, Body 7 x 7 mm, Pitch 0.5 mm; Supplier 1: Digi-Key; Supplier Part Number 1: ADS8320EB/2K5G4-ND; Digital Supply(Max)(V): 5.25; Eco-Plan: Green (RoHS & no Sb/Br); INL(Max)(+/-LSB): 1; SNR(dB): 71.5; Mounting Technology: Surface Mount; Code_JEDEC: MS-026; ComponentLink1Description: Manufacturer URL; ComponentLink1URL: http://www.ti.com/; ComponentLink2Description: Datasheet; ComponentLink2URL: http://www.ti.com/general/docs/lit/getliterature.tsp?genericPartNumber=ADS7881&fileType=pdf; ComponentLink3Description: Package Specification; ComponentLink3URL: http://www.ti.com/lit/ml/mtqf019a/mtqf019a.pdf
footprint TI-PFB48_N (QFP, 48-Leads, Body 7x7mm, Pitch 0.5mm, IPC Medium Density)
footprint TI-PFB48_L (QFP, 48-Leads, Body 7x7mm, Pitch 0.5mm, IPC High Density)
footprint TI-PFB48_M (QFP, 48-Leads, Body 7x7mm, Pitch 0.5mm, IPC Low Density)
part A pins: 1 REFIN (in) "Reference (positive) input. Needs to be decoupled with REFM pin using 0.1-uF bypass capacitor and 1-uF storage capacitor.", 2 REFOUT (out) "Internal reference output. To be shorted to REFIN pin when internal reference is used. Do not connect to REFIN pin when external reference is used. Always needs to be decoupled with AGND using 0.1-uF bypass capacitor.", 6 IN+ (in) "Noninverting analog input channel", 7 IN- (in) "Inverting analog input channel", 16 DB11 (hiz), 17 DB10 (hiz), 18 DB9 (hiz), 19 DB8 (hiz), 20 DB7 (hiz), 21 DB6 (hiz), 22 DB5 (hiz), 23 DB4 (hiz), 26 DB3 (hiz), 27 DB2 (hiz), 28 DB1 (hiz), 29 DB0 (hiz), 36 BUSY (out) "Status output. High when a conversion is in progress.", 37 ~{A_PWD} (in) "Nap mode enable, active low", 38 ~{PWD}/~{RST} (in) "Active low input, acts as device power down/device reset signal.", 39 BYTE (in) "Byte select input. Used for 8-bit bus reading. 0: No fold back 1: Lower byte D[3:0] is folded back to high byte so D3 is available in D11 place.", 40 ~{CONVST} (in) "Conversion start. The rising edge starts the acquisition. The falling edge of this input ends the acquisition and starts the conversion. Refer to the timing diagrams for more details.", 41 ~{RD} (in) "Active low synchronization pulse for the parallel output. When C\S\ is low, this serves as the output enable and puts the previous conversion results on the bus.", 42 ~{CS} (in) "Chip select. Active low signal enables chip operation like acquisition start, conversion start, bus release from 3-state. Refer to the timing diagrams for more details.", 47 REFM (power) "Reference ground. Connect to analog ground plane.", 48 REFM (power) "Reference ground. Connect to analog ground plane."
part B pins: 4 VA+ (power) "Analog power supplies. Refer to Table 3 for layout guidelines.", 5 AGND (power) "Analog ground pins. Short to analog ground plane below the device.", 8 AGND (power) "Analog ground pins. Short to analog ground plane below the device.", 9 VA+ (power) "Analog power supplies. Refer to Table 3 for layout guidelines.", 10 VA+ (power) "Analog power supplies. Refer to Table 3 for layout guidelines.", 11 AGND (power) "Analog ground pins. Short to analog ground plane below the device.", 12 AGND (power) "Analog ground pins. Short to analog ground plane below the device.", 13 VA+ (power) "Analog power supplies. Refer to Table 3 for layout guidelines.", 14 AGND (power) "Analog ground pins. Short to analog ground plane below the device.", 15 AGND (power) "Analog ground pins. Short to analog ground plane below the device.", 24 VBD+ (power) "Digital power supply for all digital inputs and outputs. Refer to Table 3 for layout guidelines.", 25 BDGND (power) "Digital ground for all digital inputs and outputs. Short to analog ground plane below the device", 34 VBD+ (power) "Digital power supply for all digital inputs and outputs. Refer to Table 3 for layout guidelines.", 35 BDGND (power) "Digital ground for all digital inputs and outputs. Short to analog ground plane below the device", 43 VA+ (power) "Analog power supplies. Refer to Table 3 for layout guidelines.", 44 AGND (power) "Analog ground pins. Short to analog ground plane below the device.", 45 AGND (power) "Analog ground pins. Short to analog ground plane below the device.", 46 VA+ (power) "Analog power supplies. Refer to Table 3 for layout guidelines."
part C pins: 3 NC "No connection", 30 NC "No connection", 31 NC "No connection", 32 NC "No connection", 33 NC "No connection"